# EAGLE library part CY7C1041GN30-10ZSXI_LCSC (library lcsc_parts)
Description: 4Mbit 2.2V~3.6V Parallel Port (Parallel) TSOPII-44-10.2mm Memory RoHS Manufacturer: Infineon/CYPRESS MPN: CY7C1041GN30-10ZSXI LCSC Part: C511134 Category: Memory Datasheet: https://datasheet.lcsc.com/datasheet/pdf/1c7839ffa93f09485df34ef195016169.pdf?productCode=C511134
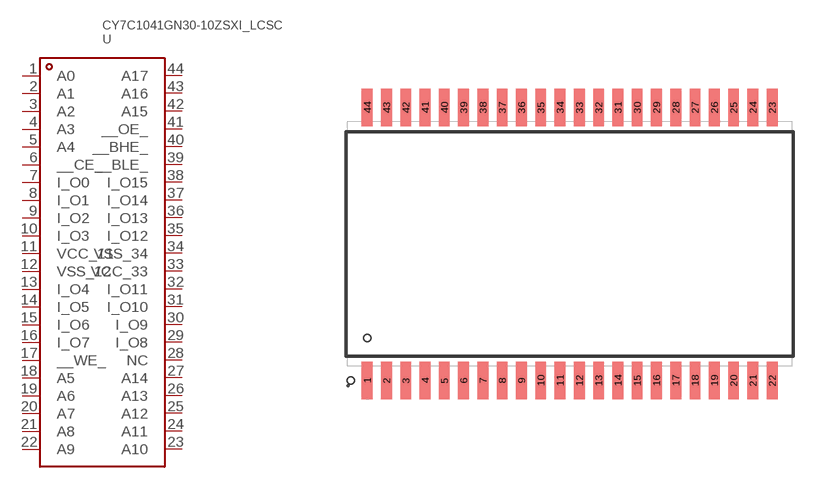
[diagram p9: symbol with the pads of TSOP-44_L18.4-W10.2-P0.80-LS11.8-BL; footprint TSOP-44_L18.4-W10.2-P0.80-LS11.8-BL]

Designator prefix U

## CY7C1041GN30-10ZSXI_LCSC (ACCESS_TIME: 10ns; CATEGORY: Memory; CURRENT_SUPPLY: 38mA; DATASHEET: https://datasheet.lcsc.com/datasheet/pdf/1c7839ffa93f09485df34ef195016169.pdf?productCode=C511134; DESCRIPTION: 4Mbit 2.2V~3.6V Parallel Port (Parallel) TSOPII-44-10.2mm Memory RoHS; FEATURES: Auto power-down function; INTERFACE: Parallel Port (Parallel); LCSC_PART: C511134; LCSC_STOCK: 37; MANUFACTURER: Infineon/CYPRESS; MEMORY_SIZE: 4Mbit; MPN: CY7C1041GN30-10ZSXI; OPERATING_TEMPERATURE: -40℃~+85℃; PARTNO: CY7C1041GN30-10ZSXI; PRICING_1000: $2.7364/unit @ 1000; PRICING_50: $2.7802/unit @ 50; STANDBY_SUPPLY_CURRENT: 6mA; VOLTAGE_SUPPLY: 2.2V~3.6V)  [TSOP-44_L18.4-W10.2-P0.80-LS11.8-BL]
1  A0
2  A1
3  A2
4  A3
5  A4
6  __CE_
7  I_O0
8  I_O1
9  I_O2
10  I_O3
11  VCC_11
12  VSS_12
13  I_O4
14  I_O5
15  I_O6
16  I_O7
17  __WE_
18  A5
19  A6
20  A7
21  A8
22  A9
23  A10
24  A11
25  A12
26  A13
27  A14
28  NC
29  I_O8
30  I_O9
31  I_O10
32  I_O11
33  VCC_33
34  VSS_34
35  I_O12
36  I_O13
37  I_O14
38  I_O15
39  __BLE_
40  __BHE_
41  __OE_
42  A15
43  A16
44  A17

## Footprint TSOP-44_L18.4-W10.2-P0.80-LS11.8-BL (pad centres in mm)
smd 0.448 x 1.551: 1 -8.4,-5.66; 2 -7.6,-5.66; 3 -6.8,-5.66; 4 -6,-5.66; 5 -5.2,-5.66; 6 -4.4,-5.66; 7 -3.6,-5.66; 8 -2.8,-5.66; 9 -2,-5.66; 10 -1.2,-5.66; 11 -0.4,-5.66; 12 0.4,-5.66; 13 1.2,-5.66; 14 2,-5.66; 15 2.8,-5.66; 16 3.6,-5.66; 17 4.4,-5.66; 18 5.2,-5.66; 19 6,-5.66; 20 6.8,-5.66; 21 7.6,-5.66; 22 8.4,-5.66; 23 8.4,5.66; 24 7.6,5.66; 25 6.8,5.66; 26 6,5.66; 27 5.2,5.66; 28 4.4,5.66; 29 3.6,5.66; 30 2.8,5.66; 31 2,5.66; 32 1.2,5.66; 33 0.4,5.66; 34 -0.4,5.66; 35 -1.2,5.66; 36 -2,5.66; 37 -2.8,5.66; 38 -3.6,5.66; 39 -4.4,5.66; 40 -5.2,5.66; 41 -6,5.66; 42 -6.8,5.66; 43 -7.6,5.66; 44 -8.4,5.66